# Altium schematic symbol library kmilo17pet-LT_PMIC_LT.SchLib: 2252 symbols (part 90 of 124)
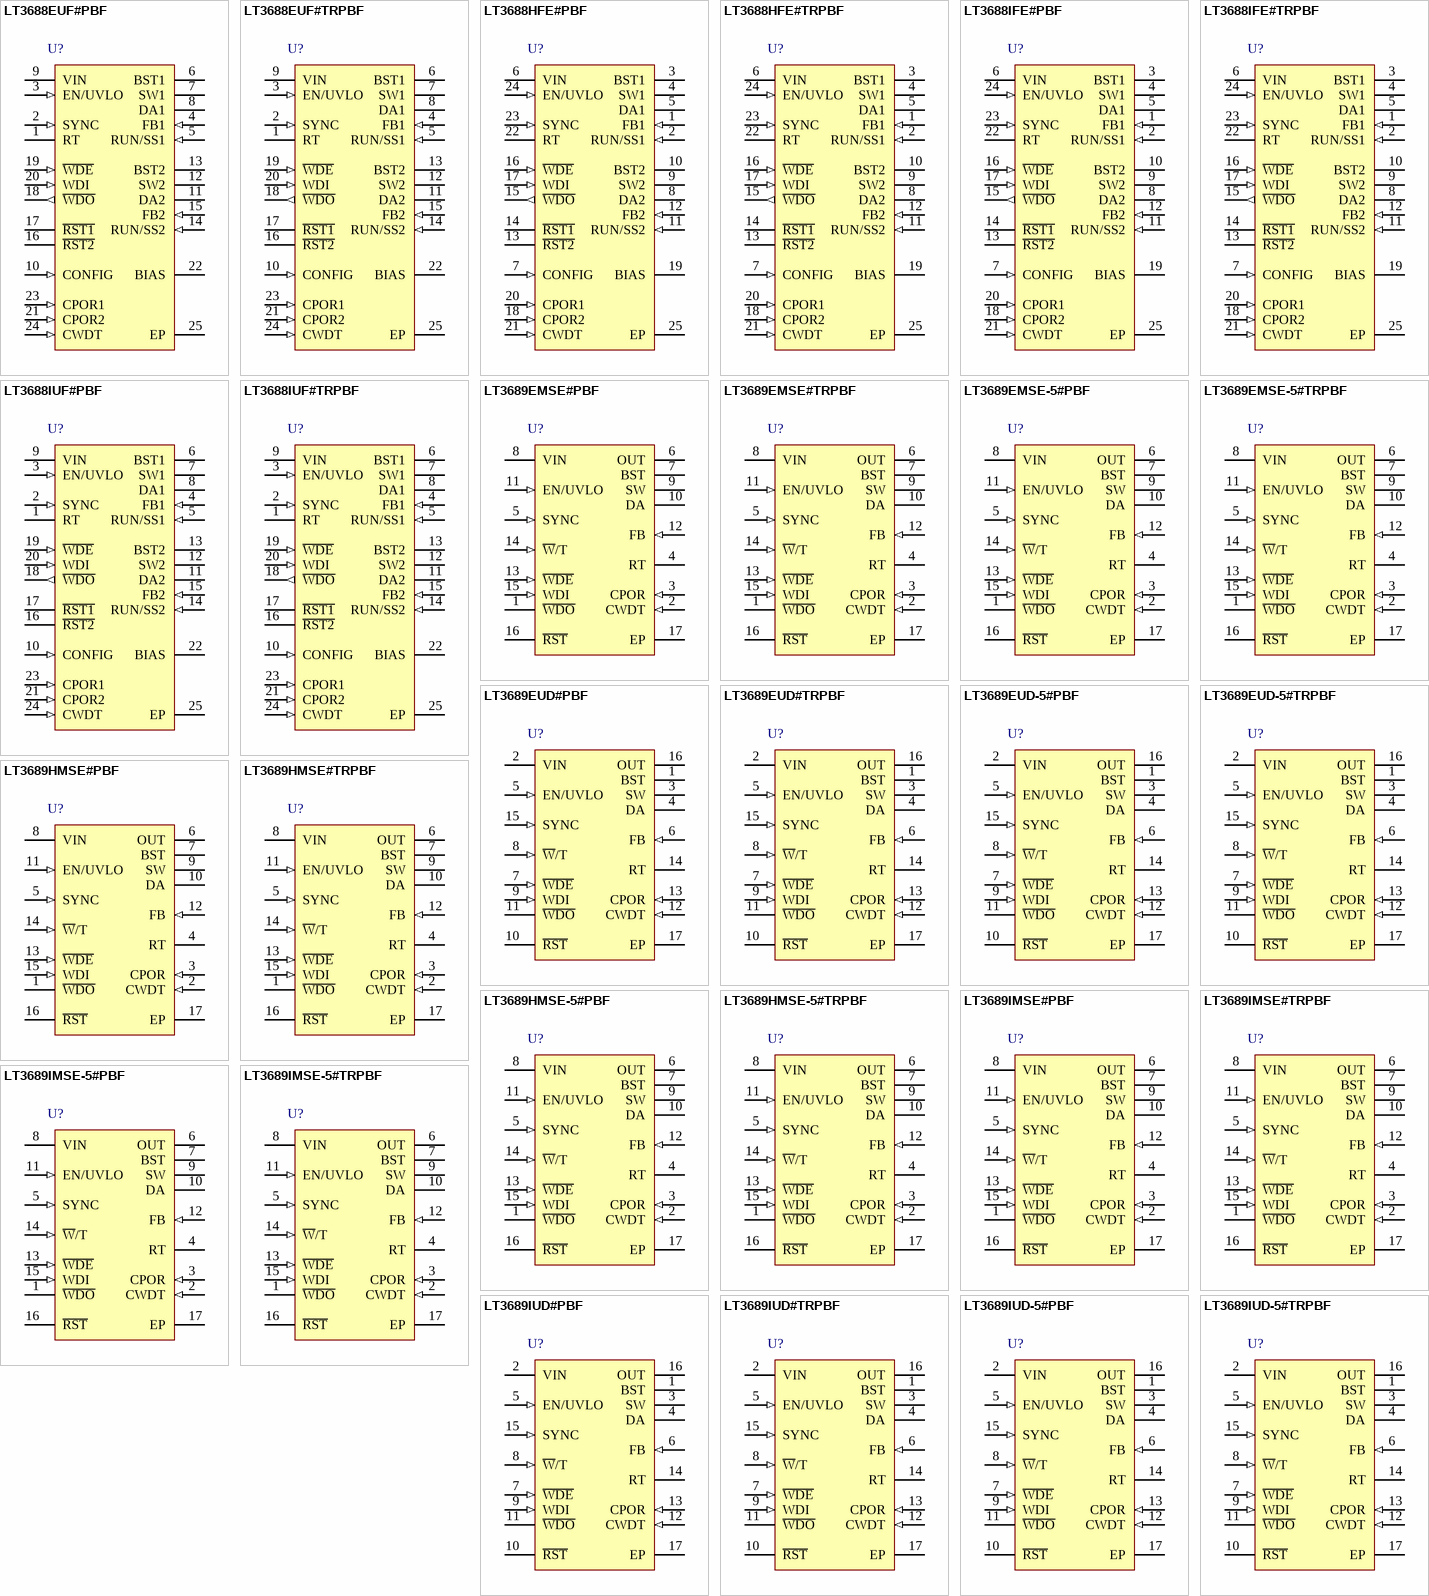
[diagram p160: symbols LT3688EUF#PBF to LT3689IUD-5#TRPBF]

## LT3688HFE#PBF
designator U?
Dual 800 mA Step-Down Switching Regulator with Power-On Reset and Watchdog Timer, 24-pin SOP (FE-24-EPV-AA), -40 to 150 degC, Pb-Free; Manufacturer: Linear Technology; PartNumber: LT3688HFE#PBF; Number of Outputs: 2; PackageReference: FE-24; PackageDescription: 24-Pin Plastic TSSOP, Body 7.8 x 4.4 mm, Pitch 0.65 mm; Supplier 1: Digi-Key; Supplier Part Number 1: LT3688HFE#PBF-ND; RoHS: TRUE
footprint LT-FE-24-EPV-AA_N (SOP, 24-Leads, Body 7.9x4.5mm, Pitch 0.65mm, Thermal Pad 2.74x3.25mm, IPC Medium Density)
footprint LT-FE-24-EPV-AA_L (SOP, 24-Leads, Body 7.9x4.5mm, Pitch 0.65mm, Thermal Pad 2.74x3.25mm, IPC High Density)
footprint LT-FE-24-EPV-AA_M (SOP, 24-Leads, Body 7.9x4.5mm, Pitch 0.65mm, Thermal Pad 2.74x3.25mm, IPC Low Density)
pins: 1 FB1 (in) "The LT3688 regulates the feedback pins to 0.800V. Connect the feedback resistor divider taps to this pin.", 2 RUN/SS1 (in) "Place a capacitor from RUN/SS to GND to program the soft start period. Use a 1000pF or larger capacitor at these pins. To ensure the SS capacitors are discharged, internal circuitry pulls the RUN/SS pins low and disables (See Datasheet)", 3 BST1 "The BST pins are used to provide drive voltage, higher than the input voltage, to the internal NPN power switches.", 4 SW1 (power) "The SW pins are the outputs of the internal power switches. Connect these pins to the inductors, catch diodes and boost capacitors.", 5 DA1 "Tie the DA pin to the anode of the external catch Schottky diode. If the DA pin current exceeds 1.2A, which could occur in an overload or short-circuit condition, switching is disabled until the DA pin current falls below 1.(See Datasheet)", 6 VIN (power) "The VIN pin supplies current to the LT3688’s internal circuitry and to the internal power switches and must be locally bypassed.", 7 CONFIG (in) "The CONFIG pin programs the start-up sequence of the two voltage regulators and the behavior of the power-on reset and watchdog timers. To select one of three configuration options, tie the CONFIG pin to VIN, tie the CONFIG (See Datasheet)", 8 DA2 "Tie the DA pin to the anode of the external catch Schottky diode. If the DA pin current exceeds 1.2A, which could occur in an overload or short-circuit condition, switching is disabled until the DA pin current falls below 1.(See Datasheet)", 9 SW2 (power) "The SW pins are the outputs of the internal power switches. Connect these pins to the inductors, catch diodes and boost capacitors.", 10 BST2 "The BST pins are used to provide drive voltage, higher than the input voltage, to the internal NPN power switches.", 11 RUN/SS2 (in) "Place a capacitor from RUN/SS to GND to program the soft start period. Use a 1000pF or larger capacitor at these pins. To ensure the SS capacitors are discharged, internal circuitry pulls the RUN/SS pins low and disables (See Datasheet)", 12 FB2 (in) "The LT3688 regulates the feedback pins to 0.800V. Connect the feedback resistor divider taps to this pin.", 13 ~{RST2} (oc) "The R\S\T\ pins are active low, open-drain logic outputs with a weak pull-up to BIAS. After VFB rises above 0.72V, the reset remains asserted for the period set by the capacitor on the CPOR pin. Tie the R\S\T\ pins to BIAS (See Datasheet)", 14 ~{RST1} (oc) "The R\S\T\ pins are active low, open-drain logic outputs with a weak pull-up to BIAS. After VFB rises above 0.72V, the reset remains asserted for the period set by the capacitor on the CPOR pin. Tie the R\S\T\ pins to BIAS (See Datasheet)", 15 ~{WDO} (out) "W\D\O\ will go low if the microprocessor fails to drive the WDI pin of the LT3688 with the appropriate signal. Tie the W\D\O\ pin to BIAS with a 100k resistor for a stronger pull-up. Keep capacitive loading on this pin below (See Datasheet)", 16 ~{WDE} (in) "The watchdog timer enable pin disables the watchdog timer if the W\D\E\ voltage exceeds 1V. Float this pin or tie to ground for normal operation.", 17 WDI (in) "The watchdog timer input pin receives the watchdog signal from the microprocessor. If two or more negative edges occur on WDI before the programmed fast timer period or no negative edge occurs within the slow timer period, (See Datasheet)", 18 CPOR2 (in) "Place a capacitor between this pin and ground to set the power-on-reset timeout period.", 19 BIAS (power) "The BIAS pin supplies current to the internal circuitry when BIAS is above 3V, helping reduce input quiescent current. The internal Schottky diodes are connected from BIAS to BST, providing the charging path for the boost (See Datasheet)", 20 CPOR1 (in) "Place a capacitor between this pin and ground to set the power-on-reset timeout period.", 21 CWDT (in) "Place a capacitor between this pin and ground to set the fast and slow watchdog timer periods.", 22 RT "The RT pin is used to set the internal oscillator frequency. Tie a resistor from RT to GND to set the switching frequency.", 23 SYNC (in) "Drive the SYNC pin with a logiclevel signal with positive and negative pulse widths of at least 150ns. Do not float this pin. Tie to GND if the SYNC feature is not used.", 24 EN/UVLO (in) "The EN/UVLO pin is used to put the LT3688 in shutdown mode. Pull the pin below 0.3V to shut down the LT3688. The 1.25V threshold can function as an accurate undervoltage lockout (UVLO), preventing the regulator from (See Datasheet)", 25 EP (power) "Ground. Tie the exposed pad directly to the ground plane. The exposed pad metal of the package provides both electrical contact to ground and good thermal contact to the printed circuit board. The device must be soldered to (See Datasheet)"

## LT3688HFE#TRPBF
designator U?
Dual 800 mA Step-Down Switching Regulator with Power-On Reset and Watchdog Timer, 24-pin SOP (FE-24-EPV-AA), -40 to 150 degC, Pb-Free, Tape and Reel; Manufacturer: Linear Technology; PartNumber: LT3688HFE#TRPBF; Number of Outputs: 2; PackageReference: FE-24; PackageDescription: 24-Pin Plastic TSSOP, Body 7.8 x 4.4 mm, Pitch 0.65 mm; Supplier 1: Digi-Key; Supplier Part Number 1: LT3688HFE#TRPBF-ND; RoHS: TRUE
footprint LT-FE-24-EPV-AA_N (SOP, 24-Leads, Body 7.9x4.5mm, Pitch 0.65mm, Thermal Pad 2.74x3.25mm, IPC Medium Density)
footprint LT-FE-24-EPV-AA_L (SOP, 24-Leads, Body 7.9x4.5mm, Pitch 0.65mm, Thermal Pad 2.74x3.25mm, IPC High Density)
footprint LT-FE-24-EPV-AA_M (SOP, 24-Leads, Body 7.9x4.5mm, Pitch 0.65mm, Thermal Pad 2.74x3.25mm, IPC Low Density)
pins: 1 FB1 (in) "The LT3688 regulates the feedback pins to 0.800V. Connect the feedback resistor divider taps to this pin.", 2 RUN/SS1 (in) "Place a capacitor from RUN/SS to GND to program the soft start period. Use a 1000pF or larger capacitor at these pins. To ensure the SS capacitors are discharged, internal circuitry pulls the RUN/SS pins low and disables (See Datasheet)", 3 BST1 "The BST pins are used to provide drive voltage, higher than the input voltage, to the internal NPN power switches.", 4 SW1 (power) "The SW pins are the outputs of the internal power switches. Connect these pins to the inductors, catch diodes and boost capacitors.", 5 DA1 "Tie the DA pin to the anode of the external catch Schottky diode. If the DA pin current exceeds 1.2A, which could occur in an overload or short-circuit condition, switching is disabled until the DA pin current falls below 1.(See Datasheet)", 6 VIN (power) "The VIN pin supplies current to the LT3688’s internal circuitry and to the internal power switches and must be locally bypassed.", 7 CONFIG (in) "The CONFIG pin programs the start-up sequence of the two voltage regulators and the behavior of the power-on reset and watchdog timers. To select one of three configuration options, tie the CONFIG pin to VIN, tie the CONFIG (See Datasheet)", 8 DA2 "Tie the DA pin to the anode of the external catch Schottky diode. If the DA pin current exceeds 1.2A, which could occur in an overload or short-circuit condition, switching is disabled until the DA pin current falls below 1.(See Datasheet)", 9 SW2 (power) "The SW pins are the outputs of the internal power switches. Connect these pins to the inductors, catch diodes and boost capacitors.", 10 BST2 "The BST pins are used to provide drive voltage, higher than the input voltage, to the internal NPN power switches.", 11 RUN/SS2 (in) "Place a capacitor from RUN/SS to GND to program the soft start period. Use a 1000pF or larger capacitor at these pins. To ensure the SS capacitors are discharged, internal circuitry pulls the RUN/SS pins low and disables (See Datasheet)", 12 FB2 (in) "The LT3688 regulates the feedback pins to 0.800V. Connect the feedback resistor divider taps to this pin.", 13 ~{RST2} (oc) "The R\S\T\ pins are active low, open-drain logic outputs with a weak pull-up to BIAS. After VFB rises above 0.72V, the reset remains asserted for the period set by the capacitor on the CPOR pin. Tie the R\S\T\ pins to BIAS (See Datasheet)", 14 ~{RST1} (oc) "The R\S\T\ pins are active low, open-drain logic outputs with a weak pull-up to BIAS. After VFB rises above 0.72V, the reset remains asserted for the period set by the capacitor on the CPOR pin. Tie the R\S\T\ pins to BIAS (See Datasheet)", 15 ~{WDO} (out) "W\D\O\ will go low if the microprocessor fails to drive the WDI pin of the LT3688 with the appropriate signal. Tie the W\D\O\ pin to BIAS with a 100k resistor for a stronger pull-up. Keep capacitive loading on this pin below (See Datasheet)", 16 ~{WDE} (in) "The watchdog timer enable pin disables the watchdog timer if the W\D\E\ voltage exceeds 1V. Float this pin or tie to ground for normal operation.", 17 WDI (in) "The watchdog timer input pin receives the watchdog signal from the microprocessor. If two or more negative edges occur on WDI before the programmed fast timer period or no negative edge occurs within the slow timer period, (See Datasheet)", 18 CPOR2 (in) "Place a capacitor between this pin and ground to set the power-on-reset timeout period.", 19 BIAS (power) "The BIAS pin supplies current to the internal circuitry when BIAS is above 3V, helping reduce input quiescent current. The internal Schottky diodes are connected from BIAS to BST, providing the charging path for the boost (See Datasheet)", 20 CPOR1 (in) "Place a capacitor between this pin and ground to set the power-on-reset timeout period.", 21 CWDT (in) "Place a capacitor between this pin and ground to set the fast and slow watchdog timer periods.", 22 RT "The RT pin is used to set the internal oscillator frequency. Tie a resistor from RT to GND to set the switching frequency.", 23 SYNC (in) "Drive the SYNC pin with a logiclevel signal with positive and negative pulse widths of at least 150ns. Do not float this pin. Tie to GND if the SYNC feature is not used.", 24 EN/UVLO (in) "The EN/UVLO pin is used to put the LT3688 in shutdown mode. Pull the pin below 0.3V to shut down the LT3688. The 1.25V threshold can function as an accurate undervoltage lockout (UVLO), preventing the regulator from (See Datasheet)", 25 EP (power) "Ground. Tie the exposed pad directly to the ground plane. The exposed pad metal of the package provides both electrical contact to ground and good thermal contact to the printed circuit board. The device must be soldered to (See Datasheet)"

## LT3688IFE#PBF
designator U?
Dual 800 mA Step-Down Switching Regulator with Power-On Reset and Watchdog Timer, 24-pin SOP (FE-24-EPV-AA), -40 to 125 degC, Pb-Free; Manufacturer: Linear Technology; PartNumber: LT3688IFE#PBF; Number of Outputs: 2; PackageReference: FE-24; PackageDescription: 24-Pin Plastic TSSOP, Body 7.8 x 4.4 mm, Pitch 0.65 mm; Supplier 1: Digi-Key; Supplier Part Number 1: LT3688IFE#PBF-ND; RoHS: TRUE
footprint LT-FE-24-EPV-AA_N (SOP, 24-Leads, Body 7.9x4.5mm, Pitch 0.65mm, Thermal Pad 2.74x3.25mm, IPC Medium Density)
footprint LT-FE-24-EPV-AA_L (SOP, 24-Leads, Body 7.9x4.5mm, Pitch 0.65mm, Thermal Pad 2.74x3.25mm, IPC High Density)
footprint LT-FE-24-EPV-AA_M (SOP, 24-Leads, Body 7.9x4.5mm, Pitch 0.65mm, Thermal Pad 2.74x3.25mm, IPC Low Density)
pins: 1 FB1 (in) "The LT3688 regulates the feedback pins to 0.800V. Connect the feedback resistor divider taps to this pin.", 2 RUN/SS1 (in) "Place a capacitor from RUN/SS to GND to program the soft start period. Use a 1000pF or larger capacitor at these pins. To ensure the SS capacitors are discharged, internal circuitry pulls the RUN/SS pins low and disables (See Datasheet)", 3 BST1 "The BST pins are used to provide drive voltage, higher than the input voltage, to the internal NPN power switches.", 4 SW1 (power) "The SW pins are the outputs of the internal power switches. Connect these pins to the inductors, catch diodes and boost capacitors.", 5 DA1 "Tie the DA pin to the anode of the external catch Schottky diode. If the DA pin current exceeds 1.2A, which could occur in an overload or short-circuit condition, switching is disabled until the DA pin current falls below 1.(See Datasheet)", 6 VIN (power) "The VIN pin supplies current to the LT3688’s internal circuitry and to the internal power switches and must be locally bypassed.", 7 CONFIG (in) "The CONFIG pin programs the start-up sequence of the two voltage regulators and the behavior of the power-on reset and watchdog timers. To select one of three configuration options, tie the CONFIG pin to VIN, tie the CONFIG (See Datasheet)", 8 DA2 "Tie the DA pin to the anode of the external catch Schottky diode. If the DA pin current exceeds 1.2A, which could occur in an overload or short-circuit condition, switching is disabled until the DA pin current falls below 1.(See Datasheet)", 9 SW2 (power) "The SW pins are the outputs of the internal power switches. Connect these pins to the inductors, catch diodes and boost capacitors.", 10 BST2 "The BST pins are used to provide drive voltage, higher than the input voltage, to the internal NPN power switches.", 11 RUN/SS2 (in) "Place a capacitor from RUN/SS to GND to program the soft start period. Use a 1000pF or larger capacitor at these pins. To ensure the SS capacitors are discharged, internal circuitry pulls the RUN/SS pins low and disables (See Datasheet)", 12 FB2 (in) "The LT3688 regulates the feedback pins to 0.800V. Connect the feedback resistor divider taps to this pin.", 13 ~{RST2} (oc) "The R\S\T\ pins are active low, open-drain logic outputs with a weak pull-up to BIAS. After VFB rises above 0.72V, the reset remains asserted for the period set by the capacitor on the CPOR pin. Tie the R\S\T\ pins to BIAS (See Datasheet)", 14 ~{RST1} (oc) "The R\S\T\ pins are active low, open-drain logic outputs with a weak pull-up to BIAS. After VFB rises above 0.72V, the reset remains asserted for the period set by the capacitor on the CPOR pin. Tie the R\S\T\ pins to BIAS (See Datasheet)", 15 ~{WDO} (out) "W\D\O\ will go low if the microprocessor fails to drive the WDI pin of the LT3688 with the appropriate signal. Tie the W\D\O\ pin to BIAS with a 100k resistor for a stronger pull-up. Keep capacitive loading on this pin below (See Datasheet)", 16 ~{WDE} (in) "The watchdog timer enable pin disables the watchdog timer if the W\D\E\ voltage exceeds 1V. Float this pin or tie to ground for normal operation.", 17 WDI (in) "The watchdog timer input pin receives the watchdog signal from the microprocessor. If two or more negative edges occur on WDI before the programmed fast timer period or no negative edge occurs within the slow timer period, (See Datasheet)", 18 CPOR2 (in) "Place a capacitor between this pin and ground to set the power-on-reset timeout period.", 19 BIAS (power) "The BIAS pin supplies current to the internal circuitry when BIAS is above 3V, helping reduce input quiescent current. The internal Schottky diodes are connected from BIAS to BST, providing the charging path for the boost (See Datasheet)", 20 CPOR1 (in) "Place a capacitor between this pin and ground to set the power-on-reset timeout period.", 21 CWDT (in) "Place a capacitor between this pin and ground to set the fast and slow watchdog timer periods.", 22 RT "The RT pin is used to set the internal oscillator frequency. Tie a resistor from RT to GND to set the switching frequency.", 23 SYNC (in) "Drive the SYNC pin with a logiclevel signal with positive and negative pulse widths of at least 150ns. Do not float this pin. Tie to GND if the SYNC feature is not used.", 24 EN/UVLO (in) "The EN/UVLO pin is used to put the LT3688 in shutdown mode. Pull the pin below 0.3V to shut down the LT3688. The 1.25V threshold can function as an accurate undervoltage lockout (UVLO), preventing the regulator from (See Datasheet)", 25 EP (power) "Ground. Tie the exposed pad directly to the ground plane. The exposed pad metal of the package provides both electrical contact to ground and good thermal contact to the printed circuit board. The device must be soldered to (See Datasheet)"

## LT3688IFE#TRPBF
designator U?
Dual 800 mA Step-Down Switching Regulator with Power-On Reset and Watchdog Timer, 24-pin SOP (FE-24-EPV-AA), -40 to 125 degC, Pb-Free, Tape and Reel; Manufacturer: Linear Technology; PartNumber: LT3688IFE#TRPBF; Number of Outputs: 2; PackageReference: FE-24; PackageDescription: 24-Pin Plastic TSSOP, Body 7.8 x 4.4 mm, Pitch 0.65 mm; Supplier 1: Digi-Key; Supplier Part Number 1: LT3688IFE#TRPBF-ND; RoHS: TRUE
footprint LT-FE-24-EPV-AA_N (SOP, 24-Leads, Body 7.9x4.5mm, Pitch 0.65mm, Thermal Pad 2.74x3.25mm, IPC Medium Density)
footprint LT-FE-24-EPV-AA_L (SOP, 24-Leads, Body 7.9x4.5mm, Pitch 0.65mm, Thermal Pad 2.74x3.25mm, IPC High Density)
footprint LT-FE-24-EPV-AA_M (SOP, 24-Leads, Body 7.9x4.5mm, Pitch 0.65mm, Thermal Pad 2.74x3.25mm, IPC Low Density)
pins: 1 FB1 (in) "The LT3688 regulates the feedback pins to 0.800V. Connect the feedback resistor divider taps to this pin.", 2 RUN/SS1 (in) "Place a capacitor from RUN/SS to GND to program the soft start period. Use a 1000pF or larger capacitor at these pins. To ensure the SS capacitors are discharged, internal circuitry pulls the RUN/SS pins low and disables (See Datasheet)", 3 BST1 "The BST pins are used to provide drive voltage, higher than the input voltage, to the internal NPN power switches.", 4 SW1 (power) "The SW pins are the outputs of the internal power switches. Connect these pins to the inductors, catch diodes and boost capacitors.", 5 DA1 "Tie the DA pin to the anode of the external catch Schottky diode. If the DA pin current exceeds 1.2A, which could occur in an overload or short-circuit condition, switching is disabled until the DA pin current falls below 1.(See Datasheet)", 6 VIN (power) "The VIN pin supplies current to the LT3688’s internal circuitry and to the internal power switches and must be locally bypassed.", 7 CONFIG (in) "The CONFIG pin programs the start-up sequence of the two voltage regulators and the behavior of the power-on reset and watchdog timers. To select one of three configuration options, tie the CONFIG pin to VIN, tie the CONFIG (See Datasheet)", 8 DA2 "Tie the DA pin to the anode of the external catch Schottky diode. If the DA pin current exceeds 1.2A, which could occur in an overload or short-circuit condition, switching is disabled until the DA pin current falls below 1.(See Datasheet)", 9 SW2 (power) "The SW pins are the outputs of the internal power switches. Connect these pins to the inductors, catch diodes and boost capacitors.", 10 BST2 "The BST pins are used to provide drive voltage, higher than the input voltage, to the internal NPN power switches.", 11 RUN/SS2 (in) "Place a capacitor from RUN/SS to GND to program the soft start period. Use a 1000pF or larger capacitor at these pins. To ensure the SS capacitors are discharged, internal circuitry pulls the RUN/SS pins low and disables (See Datasheet)", 12 FB2 (in) "The LT3688 regulates the feedback pins to 0.800V. Connect the feedback resistor divider taps to this pin.", 13 ~{RST2} (oc) "The R\S\T\ pins are active low, open-drain logic outputs with a weak pull-up to BIAS. After VFB rises above 0.72V, the reset remains asserted for the period set by the capacitor on the CPOR pin. Tie the R\S\T\ pins to BIAS (See Datasheet)", 14 ~{RST1} (oc) "The R\S\T\ pins are active low, open-drain logic outputs with a weak pull-up to BIAS. After VFB rises above 0.72V, the reset remains asserted for the period set by the capacitor on the CPOR pin. Tie the R\S\T\ pins to BIAS (See Datasheet)", 15 ~{WDO} (out) "W\D\O\ will go low if the microprocessor fails to drive the WDI pin of the LT3688 with the appropriate signal. Tie the W\D\O\ pin to BIAS with a 100k resistor for a stronger pull-up. Keep capacitive loading on this pin below (See Datasheet)", 16 ~{WDE} (in) "The watchdog timer enable pin disables the watchdog timer if the W\D\E\ voltage exceeds 1V. Float this pin or tie to ground for normal operation.", 17 WDI (in) "The watchdog timer input pin receives the watchdog signal from the microprocessor. If two or more negative edges occur on WDI before the programmed fast timer period or no negative edge occurs within the slow timer period, (See Datasheet)", 18 CPOR2 (in) "Place a capacitor between this pin and ground to set the power-on-reset timeout period.", 19 BIAS (power) "The BIAS pin supplies current to the internal circuitry when BIAS is above 3V, helping reduce input quiescent current. The internal Schottky diodes are connected from BIAS to BST, providing the charging path for the boost (See Datasheet)", 20 CPOR1 (in) "Place a capacitor between this pin and ground to set the power-on-reset timeout period.", 21 CWDT (in) "Place a capacitor between this pin and ground to set the fast and slow watchdog timer periods.", 22 RT "The RT pin is used to set the internal oscillator frequency. Tie a resistor from RT to GND to set the switching frequency.", 23 SYNC (in) "Drive the SYNC pin with a logiclevel signal with positive and negative pulse widths of at least 150ns. Do not float this pin. Tie to GND if the SYNC feature is not used.", 24 EN/UVLO (in) "The EN/UVLO pin is used to put the LT3688 in shutdown mode. Pull the pin below 0.3V to shut down the LT3688. The 1.25V threshold can function as an accurate undervoltage lockout (UVLO), preventing the regulator from (See Datasheet)", 25 EP (power) "Ground. Tie the exposed pad directly to the ground plane. The exposed pad metal of the package provides both electrical contact to ground and good thermal contact to the printed circuit board. The device must be soldered to (See Datasheet)"

## LT3688IUF#PBF
designator U?
Dual 800 mA Step-Down Switching Regulator with Power-On Reset and Watchdog Timer, 24-pin QFN (UF-24), -40 to 125 degC, Pb-Free; Manufacturer: Linear Technology; PartNumber: LT3688IUF#PBF; Number of Outputs: 2; PackageReference: UF24; PackageDescription: 24-Pin Plastic QFN, Body 4 x 4 mm, Pitch 0.5 mm; Supplier 1: Digi-Key; Supplier Part Number 1: LT3688IUF#PBF-ND; RoHS: TRUE
footprint LT-UF-24_N (QFN, 24-Leads, Body 4.1x4.1mm, Pitch 0.5mm, Thermal Pad 2.45x2.45mm, IPC Medium Density)
footprint LT-UF-24_L (QFN, 24-Leads, Body 4.1x4.1mm, Pitch 0.5mm, Thermal Pad 2.45x2.45mm, IPC High Density)
footprint LT-UF-24_M (QFN, 24-Leads, Body 4.1x4.1mm, Pitch 0.5mm, Thermal Pad 2.45x2.45mm, IPC Low Density)
pins: 1 RT "The RT pin is used to set the internal oscillator frequency. Tie a resistor from RT to GND to set the switching frequency.", 2 SYNC (in) "Drive the SYNC pin with a logiclevel signal with positive and negative pulse widths of at least 150ns. Do not float this pin. Tie to GND if the SYNC feature is not used.", 3 EN/UVLO (in) "The EN/UVLO pin is used to put the LT3688 in shutdown mode. Pull the pin below 0.3V to shut down the LT3688. The 1.25V threshold can function as an accurate undervoltage lockout (UVLO), preventing the regulator from (See Datasheet)", 4 FB1 (in) "The LT3688 regulates the feedback pins to 0.800V. Connect the feedback resistor divider taps to this pin.", 5 RUN/SS1 (in) "Place a capacitor from RUN/SS to GND to program the soft start period. Use a 1000pF or larger capacitor at these pins. To ensure the SS capacitors are discharged, internal circuitry pulls the RUN/SS pins low and disables (See Datasheet)", 6 BST1 "The BST pins are used to provide drive voltage, higher than the input voltage, to the internal NPN power switches.", 7 SW1 (power) "The SW pins are the outputs of the internal power switches. Connect these pins to the inductors, catch diodes and boost capacitors.", 8 DA1 "Tie the DA pin to the anode of the external catch Schottky diode. If the DA pin current exceeds 1.2A, which could occur in an overload or short-circuit condition, switching is disabled until the DA pin current falls below 1.(See Datasheet)", 9 VIN (power) "The VIN pin supplies current to the LT3688’s internal circuitry and to the internal power switches and must be locally bypassed.", 10 CONFIG (in) "The CONFIG pin programs the start-up sequence of the two voltage regulators and the behavior of the power-on reset and watchdog timers. To select one of three configuration options, tie the CONFIG pin to VIN, tie the CONFIG (See Datasheet)", 11 DA2 "Tie the DA pin to the anode of the external catch Schottky diode. If the DA pin current exceeds 1.2A, which could occur in an overload or short-circuit condition, switching is disabled until the DA pin current falls below 1.(See Datasheet)", 12 SW2 (power) "The SW pins are the outputs of the internal power switches. Connect these pins to the inductors, catch diodes and boost capacitors.", 13 BST2 "The BST pins are used to provide drive voltage, higher than the input voltage, to the internal NPN power switches.", 14 RUN/SS2 (in) "Place a capacitor from RUN/SS to GND to program the soft start period. Use a 1000pF or larger capacitor at these pins. To ensure the SS capacitors are discharged, internal circuitry pulls the RUN/SS pins low and disables (See Datasheet)", 15 FB2 (in) "The LT3688 regulates the feedback pins to 0.800V. Connect the feedback resistor divider taps to this pin.", 16 ~{RST2} (oc) "The R\S\T\ pins are active low, open-drain logic outputs with a weak pull-up to BIAS. After VFB rises above 0.72V, the reset remains asserted for the period set by the capacitor on the CPOR pin. Tie the R\S\T\ pins to BIAS (See Datasheet)", 17 ~{RST1} (oc) "The R\S\T\ pins are active low, open-drain logic outputs with a weak pull-up to BIAS. After VFB rises above 0.72V, the reset remains asserted for the period set by the capacitor on the CPOR pin. Tie the R\S\T\ pins to BIAS (See Datasheet)", 18 ~{WDO} (out) "W\D\O\ will go low if the microprocessor fails to drive the WDI pin of the LT3688 with the appropriate signal. Tie the W\D\O\ pin to BIAS with a 100k resistor for a stronger pull-up. Keep capacitive loading on this pin below (See Datasheet)", 19 ~{WDE} (in) "The watchdog timer enable pin disables the watchdog timer if the W\D\E\ voltage exceeds 1V. Float this pin or tie to ground for normal operation.", 20 WDI (in) "The watchdog timer input pin receives the watchdog signal from the microprocessor. If two or more negative edges occur on WDI before the programmed fast timer period or no negative edge occurs within the slow timer period, (See Datasheet)", 21 CPOR2 (in) "Place a capacitor between this pin and ground to set the power-on-reset timeout period.", 22 BIAS (power) "The BIAS pin supplies current to the internal circuitry when BIAS is above 3V, helping reduce input quiescent current. The internal Schottky diodes are connected from BIAS to BST, providing the charging path for the boost (See Datasheet)", 23 CPOR1 (in) "Place a capacitor between this pin and ground to set the power-on-reset timeout period.", 24 CWDT (in) "Place a capacitor between this pin and ground to set the fast and slow watchdog timer periods.", 25 EP (power) "Ground. Tie the exposed pad directly to the ground plane. The exposed pad metal of the package provides both electrical contact to ground and good thermal contact to the printed circuit board. The device must be soldered to (See Datasheet)"

## LT3688IUF#TRPBF
designator U?
Dual 800 mA Step-Down Switching Regulator with Power-On Reset and Watchdog Timer, 24-pin QFN (UF-24), -40 to 125 degC, Pb-Free, Tape and Reel; Manufacturer: Linear Technology; PartNumber: LT3688IUF#TRPBF; Number of Outputs: 2; PackageReference: UF24; PackageDescription: 24-Pin Plastic QFN, Body 4 x 4 mm, Pitch 0.5 mm; Supplier 1: Digi-Key; Supplier Part Number 1: LT3688IUF#TRPBF-ND; RoHS: TRUE
footprint LT-UF-24_N (QFN, 24-Leads, Body 4.1x4.1mm, Pitch 0.5mm, Thermal Pad 2.45x2.45mm, IPC Medium Density)
footprint LT-UF-24_L (QFN, 24-Leads, Body 4.1x4.1mm, Pitch 0.5mm, Thermal Pad 2.45x2.45mm, IPC High Density)
footprint LT-UF-24_M (QFN, 24-Leads, Body 4.1x4.1mm, Pitch 0.5mm, Thermal Pad 2.45x2.45mm, IPC Low Density)
pins: 1 RT "The RT pin is used to set the internal oscillator frequency. Tie a resistor from RT to GND to set the switching frequency.", 2 SYNC (in) "Drive the SYNC pin with a logiclevel signal with positive and negative pulse widths of at least 150ns. Do not float this pin. Tie to GND if the SYNC feature is not used.", 3 EN/UVLO (in) "The EN/UVLO pin is used to put the LT3688 in shutdown mode. Pull the pin below 0.3V to shut down the LT3688. The 1.25V threshold can function as an accurate undervoltage lockout (UVLO), preventing the regulator from (See Datasheet)", 4 FB1 (in) "The LT3688 regulates the feedback pins to 0.800V. Connect the feedback resistor divider taps to this pin.", 5 RUN/SS1 (in) "Place a capacitor from RUN/SS to GND to program the soft start period. Use a 1000pF or larger capacitor at these pins. To ensure the SS capacitors are discharged, internal circuitry pulls the RUN/SS pins low and disables (See Datasheet)", 6 BST1 "The BST pins are used to provide drive voltage, higher than the input voltage, to the internal NPN power switches.", 7 SW1 (power) "The SW pins are the outputs of the internal power switches. Connect these pins to the inductors, catch diodes and boost capacitors.", 8 DA1 "Tie the DA pin to the anode of the external catch Schottky diode. If the DA pin current exceeds 1.2A, which could occur in an overload or short-circuit condition, switching is disabled until the DA pin current falls below 1.(See Datasheet)", 9 VIN (power) "The VIN pin supplies current to the LT3688’s internal circuitry and to the internal power switches and must be locally bypassed.", 10 CONFIG (in) "The CONFIG pin programs the start-up sequence of the two voltage regulators and the behavior of the power-on reset and watchdog timers. To select one of three configuration options, tie the CONFIG pin to VIN, tie the CONFIG (See Datasheet)", 11 DA2 "Tie the DA pin to the anode of the external catch Schottky diode. If the DA pin current exceeds 1.2A, which could occur in an overload or short-circuit condition, switching is disabled until the DA pin current falls below 1.(See Datasheet)", 12 SW2 (power) "The SW pins are the outputs of the internal power switches. Connect these pins to the inductors, catch diodes and boost capacitors.", 13 BST2 "The BST pins are used to provide drive voltage, higher than the input voltage, to the internal NPN power switches.", 14 RUN/SS2 (in) "Place a capacitor from RUN/SS to GND to program the soft start period. Use a 1000pF or larger capacitor at these pins. To ensure the SS capacitors are discharged, internal circuitry pulls the RUN/SS pins low and disables (See Datasheet)", 15 FB2 (in) "The LT3688 regulates the feedback pins to 0.800V. Connect the feedback resistor divider taps to this pin.", 16 ~{RST2} (oc) "The R\S\T\ pins are active low, open-drain logic outputs with a weak pull-up to BIAS. After VFB rises above 0.72V, the reset remains asserted for the period set by the capacitor on the CPOR pin. Tie the R\S\T\ pins to BIAS (See Datasheet)", 17 ~{RST1} (oc) "The R\S\T\ pins are active low, open-drain logic outputs with a weak pull-up to BIAS. After VFB rises above 0.72V, the reset remains asserted for the period set by the capacitor on the CPOR pin. Tie the R\S\T\ pins to BIAS (See Datasheet)", 18 ~{WDO} (out) "W\D\O\ will go low if the microprocessor fails to drive the WDI pin of the LT3688 with the appropriate signal. Tie the W\D\O\ pin to BIAS with a 100k resistor for a stronger pull-up. Keep capacitive loading on this pin below (See Datasheet)", 19 ~{WDE} (in) "The watchdog timer enable pin disables the watchdog timer if the W\D\E\ voltage exceeds 1V. Float this pin or tie to ground for normal operation.", 20 WDI (in) "The watchdog timer input pin receives the watchdog signal from the microprocessor. If two or more negative edges occur on WDI before the programmed fast timer period or no negative edge occurs within the slow timer period, (See Datasheet)", 21 CPOR2 (in) "Place a capacitor between this pin and ground to set the power-on-reset timeout period.", 22 BIAS (power) "The BIAS pin supplies current to the internal circuitry when BIAS is above 3V, helping reduce input quiescent current. The internal Schottky diodes are connected from BIAS to BST, providing the charging path for the boost (See Datasheet)", 23 CPOR1 (in) "Place a capacitor between this pin and ground to set the power-on-reset timeout period.", 24 CWDT (in) "Place a capacitor between this pin and ground to set the fast and slow watchdog timer periods.", 25 EP (power) "Ground. Tie the exposed pad directly to the ground plane. The exposed pad metal of the package provides both electrical contact to ground and good thermal contact to the printed circuit board. The device must be soldered to (See Datasheet)"

## LT3689EMSE#PBF
designator U?
700 mA Step-Down Regulator with Power-On Reset and Watchdog Timer, 16-pin SOP (MSE-16-EDP), -40 to 125 degC, Pb-Free; Manufacturer: Linear Technology; PartNumber: LT3689EMSE#PBF; Number of Outputs: 1; PackageReference: MSE-16; PackageDescription: 16-Pin Plastic MSOP, Exposed Die Pad, Body 4.039 x 3 mm, Pitch 0.5 mm; Supplier 1: Digi-Key; Supplier Part Number 1: LT3689EMSE#PBF-ND; RoHS: TRUE
footprint LT-MSE-16-EDP_N (SOP, 16-Leads, Body 4.1x3.1mm, Pitch 0.5mm, Thermal Pad 2.95x1.76mm, IPC Medium Density)
footprint LT-MSE-16-EDP_L (SOP, 16-Leads, Body 4.1x3.1mm, Pitch 0.5mm, Thermal Pad 2.95x1.76mm, IPC High Density)
footprint LT-MSE-16-EDP_M (SOP, 16-Leads, Body 4.1x3.1mm, Pitch 0.5mm, Thermal Pad 2.95x1.76mm, IPC Low Density)
pins: 1 ~{WDO} (oc) "Active low, open collector logic output with weak pull-up to VOUT. W\D\O\ pulls low if the W\D\E\ is enabled and the microprocessor fails to drive the WDI pin of the LT3689 with an appropriate signal.", 2 CWDT (in) "Watchdog Timer Programming Pin. Place a capacitor (CWDT) between this pin and ground to adjust the watchdog upper and lower boundary period. To determine the watchdog upper boundary period, and the lower boundary period, use (See Datasheet)", 3 CPOR (in) "Reset Delay Timer Programming Pin. Attach an external capacitor (CPOR) to GND to set a reset delay time of 2.3ms/nF.", 4 RT "Sets the Internal Oscillator Frequency. Tie a 31.6k resistor from RT to GND for a 500kHz switching frequency.", 5 SYNC (in) "Drive the SYNC pin with a logic level signal with positive and negative pulse widths of at least 80ns. The RT resistor should be chosen to set the LT3689 switching frequency at least 20% below the lowest synchronization (See Datasheet)", 6 OUT (power) "The OUT pin supplies current to the internal circuitry when OUT is above 3V, reducing input quiescent current. The internal Schottky diode is connected from OUT to BST, providing the charging path for the boost capacitor. (See Datasheet)", 7 BST (power) "The BST pin is used to provide drive voltage higher than the input voltage to the internal NPN power switch.", 8 VIN (power) "The VIN pin supplies current to the LT3689’s internal circuitry and to the internal power switch and must be locally bypassed.", 9 SW "The SW pin is the output of the internal power switch. Connect this pin to the inductor, catch diode and boost capacitor.", 10 DA "Tie the DA pin to the anode of the external catch Schottky diode. If the DA pin current exceeds 1.2A, which could occur in an overload or short-circuit condition, switching is disabled until the DA pin current falls below 1.(See Datasheet)", 11 EN/UVLO (in) "The EN/UVLO pin is used to put the LT3689 in shutdown mode. Pull the pin below 0.3V to shut down the LT3689. The 1.26V threshold can function as an accurate undervoltage lockout (UVLO), preventing the regulator from (See Datasheet)", 12 FB (in) "The LT3689 regulates the feedback pin to 0.800V. Connect the feedback resistor divider tap to this pin. For the fixed LT3689-5 output, this pin can be used to connect a phase lead capacitor between the OUT pin and FB pin to (See Datasheet)", 13 ~{WDE} (in) "Watchdog Timer Enable Pin. This pin disables the watchdog timer if the W\D\E\ voltage exceeds 1V. W\D\O\ is high in this condition.", 14 ~{W}/T (in) "Setting W\/T low puts the LT3689 watchdog timer into window mode. If two or more negative edges occur on WDI before the watchdog lower boundary (tWDL) period expires, or no negative edge occurs within the watchdog upper (See Datasheet)", 15 WDI (in) "Watchdog Timer Input Pin. This pin receives the watchdog signal from a microprocessor. If the appropriate signal is not received, the part will pulse W\D\O\ low for a period equal to the reset timeout period. The watchdog (See Datasheet)", 16 ~{RST} (oc) "Active low, open collector logic output with a weak pull-up to VOUT. After VOUT rises above 90% of its programmed value, the reset remains asserted for the period set by the capacitor on the CPOR pin.", 17 EP (power) "Ground. Tie the exposed pad directly to the ground plane. The exposed pad metal of the package provides both electrical contact to ground and good thermal contact to the printed circuit board. The device must be soldered to (See Datasheet)"

## LT3689EMSE#TRPBF
designator U?
700 mA Step-Down Regulator with Power-On Reset and Watchdog Timer, 16-pin SOP (MSE-16-EDP), -40 to 125 degC, Pb-Free, Tape and Reel; Manufacturer: Linear Technology; PartNumber: LT3689EMSE#TRPBF; Number of Outputs: 1; PackageReference: MSE-16; PackageDescription: 16-Pin Plastic MSOP, Exposed Die Pad, Body 4.039 x 3 mm, Pitch 0.5 mm; Supplier 1: Digi-Key; Supplier Part Number 1: LT3689EMSE#TRPBF-ND; RoHS: TRUE
footprint LT-MSE-16-EDP_N (SOP, 16-Leads, Body 4.1x3.1mm, Pitch 0.5mm, Thermal Pad 2.95x1.76mm, IPC Medium Density)
footprint LT-MSE-16-EDP_L (SOP, 16-Leads, Body 4.1x3.1mm, Pitch 0.5mm, Thermal Pad 2.95x1.76mm, IPC High Density)
footprint LT-MSE-16-EDP_M (SOP, 16-Leads, Body 4.1x3.1mm, Pitch 0.5mm, Thermal Pad 2.95x1.76mm, IPC Low Density)
pins: 1 ~{WDO} (oc) "Active low, open collector logic output with weak pull-up to VOUT. W\D\O\ pulls low if the W\D\E\ is enabled and the microprocessor fails to drive the WDI pin of the LT3689 with an appropriate signal.", 2 CWDT (in) "Watchdog Timer Programming Pin. Place a capacitor (CWDT) between this pin and ground to adjust the watchdog upper and lower boundary period. To determine the watchdog upper boundary period, and the lower boundary period, use (See Datasheet)", 3 CPOR (in) "Reset Delay Timer Programming Pin. Attach an external capacitor (CPOR) to GND to set a reset delay time of 2.3ms/nF.", 4 RT "Sets the Internal Oscillator Frequency. Tie a 31.6k resistor from RT to GND for a 500kHz switching frequency.", 5 SYNC (in) "Drive the SYNC pin with a logic level signal with positive and negative pulse widths of at least 80ns. The RT resistor should be chosen to set the LT3689 switching frequency at least 20% below the lowest synchronization (See Datasheet)", 6 OUT (power) "The OUT pin supplies current to the internal circuitry when OUT is above 3V, reducing input quiescent current. The internal Schottky diode is connected from OUT to BST, providing the charging path for the boost capacitor. (See Datasheet)", 7 BST (power) "The BST pin is used to provide drive voltage higher than the input voltage to the internal NPN power switch.", 8 VIN (power) "The VIN pin supplies current to the LT3689’s internal circuitry and to the internal power switch and must be locally bypassed.", 9 SW "The SW pin is the output of the internal power switch. Connect this pin to the inductor, catch diode and boost capacitor.", 10 DA "Tie the DA pin to the anode of the external catch Schottky diode. If the DA pin current exceeds 1.2A, which could occur in an overload or short-circuit condition, switching is disabled until the DA pin current falls below 1.(See Datasheet)", 11 EN/UVLO (in) "The EN/UVLO pin is used to put the LT3689 in shutdown mode. Pull the pin below 0.3V to shut down the LT3689. The 1.26V threshold can function as an accurate undervoltage lockout (UVLO), preventing the regulator from (See Datasheet)", 12 FB (in) "The LT3689 regulates the feedback pin to 0.800V. Connect the feedback resistor divider tap to this pin. For the fixed LT3689-5 output, this pin can be used to connect a phase lead capacitor between the OUT pin and FB pin to (See Datasheet)", 13 ~{WDE} (in) "Watchdog Timer Enable Pin. This pin disables the watchdog timer if the W\D\E\ voltage exceeds 1V. W\D\O\ is high in this condition.", 14 ~{W}/T (in) "Setting W\/T low puts the LT3689 watchdog timer into window mode. If two or more negative edges occur on WDI before the watchdog lower boundary (tWDL) period expires, or no negative edge occurs within the watchdog upper (See Datasheet)", 15 WDI (in) "Watchdog Timer Input Pin. This pin receives the watchdog signal from a microprocessor. If the appropriate signal is not received, the part will pulse W\D\O\ low for a period equal to the reset timeout period. The watchdog (See Datasheet)", 16 ~{RST} (oc) "Active low, open collector logic output with a weak pull-up to VOUT. After VOUT rises above 90% of its programmed value, the reset remains asserted for the period set by the capacitor on the CPOR pin.", 17 EP (power) "Ground. Tie the exposed pad directly to the ground plane. The exposed pad metal of the package provides both electrical contact to ground and good thermal contact to the printed circuit board. The device must be soldered to (See Datasheet)"

## LT3689EMSE-5#PBF
designator U?
700 mA Step-Down Regulator with Power-On Reset and Watchdog Timer, 16-pin SOP (MSE-16-EDP), -40 to 125 degC, Pb-Free; Manufacturer: Linear Technology; PartNumber: LT3689EMSE-5#PBF; Number of Outputs: 1; PackageReference: MSE-16; PackageDescription: 16-Pin Plastic MSOP, Exposed Die Pad, Body 4.039 x 3 mm, Pitch 0.5 mm; Supplier 1: Digi-Key; Supplier Part Number 1: LT3689EMSE-5#PBF-ND; RoHS: TRUE
footprint LT-MSE-16-EDP_N (SOP, 16-Leads, Body 4.1x3.1mm, Pitch 0.5mm, Thermal Pad 2.95x1.76mm, IPC Medium Density)
footprint LT-MSE-16-EDP_L (SOP, 16-Leads, Body 4.1x3.1mm, Pitch 0.5mm, Thermal Pad 2.95x1.76mm, IPC High Density)
footprint LT-MSE-16-EDP_M (SOP, 16-Leads, Body 4.1x3.1mm, Pitch 0.5mm, Thermal Pad 2.95x1.76mm, IPC Low Density)
pins: 1 ~{WDO} (oc) "Active low, open collector logic output with weak pull-up to VOUT. W\D\O\ pulls low if the W\D\E\ is enabled and the microprocessor fails to drive the W\D\I\ pin of the LT3689 with an appropriate signal.", 2 CWDT (in) "Watchdog Timer Programming Pin. Place a capacitor (CWDT) between this pin and ground to adjust the watchdog upper and lower boundary period. To determine the watchdog upper boundary period, and the lower boundary period, use (See Datasheet)", 3 CPOR (in) "Reset Delay Timer Programming Pin. Attach an external capacitor (CPOR) to GND to set a reset delay time of 2.3ms/nF.", 4 RT "Sets the Internal Oscillator Frequency. Tie a 31.6k resistor from RT to GND for a 500kHz switching frequency.", 5 SYNC (in) "Drive the SYNC pin with a logic level signal with positive and negative pulse widths of at least 80ns. The RT resistor should be chosen to set the LT3689 switching frequency at least 20% below the lowest synchronization (See Datasheet)", 6 OUT (power) "The OUT pin supplies current to the internal circuitry when OUT is above 3V, reducing input quiescent current. The internal Schottky diode is connected from OUT to BST, providing the charging path for the boost capacitor. (See Datasheet)", 7 BST "The BST pin is used to provide drive voltage higher than the input voltage to the internal NPN power switch.", 8 VIN (power) "The VIN pin supplies current to the LT3689’s internal circuitry and to the internal power switch and must be locally bypassed.", 9 SW (power) "The SW pin is the output of the internal power switch. Connect this pin to the inductor, catch diode and boost capacitor.", 10 DA "Tie the DA pin to the anode of the external catch Schottky diode. If the DA pin current exceeds 1.2A, which could occur in an overload or short-circuit condition, switching is disabled until the DA pin current falls below 1.(See Datasheet)", 11 EN/UVLO (in) "The EN/UVLO pin is used to put the LT3689 in shutdown mode. Pull the pin below 0.3V to shut down the LT3689. The 1.26V threshold can function as an accurate undervoltage lockout (UVLO), preventing the regulator from (See Datasheet)", 12 FB (in) "The LT3689 regulates the feedback pin to 0.800V. Connect the feedback resistor divider tap to this pin. For the fixed LT3689-5 output, this pin can be used to connect a phase lead capacitor between the OUT pin and FB pin to (See Datasheet)", 13 ~{WDE} (in) "Watchdog Timer Enable Pin. This pin disables the watchdog timer if the W\D\E\ voltage exceeds 1V. W\D\O\ is high in this condition.", 14 ~{W}/T (in) "Setting W\/T low puts the LT3689 watchdog timer into window mode. If two or more negative edges occur on WDI before the watchdog lower boundary (tWDL) period expires, or no negative edge occurs within the watchdog upper (See Datasheet)", 15 WDI (in) "Watchdog Timer Input Pin. This pin receives the watchdog signal from a microprocessor. If the appropriate signal is not received, the part will pulse W\D\O\ low for a period equal to the reset timeout period. The watchdog (See Datasheet)", 16 ~{RST} (oc) "Active low, open collector logic output with a weak pull-up to VOUT. After VOUT rises above 90% of its programmed value, the reset remains asserted for the period set by the capacitor on the CPOR pin.", 17 EP (power) "Ground. Tie the exposed pad directly to the ground plane. The exposed pad metal of the package provides both electrical contact to ground and good thermal contact to the printed circuit board. The device must be soldered to (See Datasheet)"